# Altium schematic symbol library Connector.SchLib: 31 symbols
Pins are listed as number, name and electrical type; pins without a type are passive.

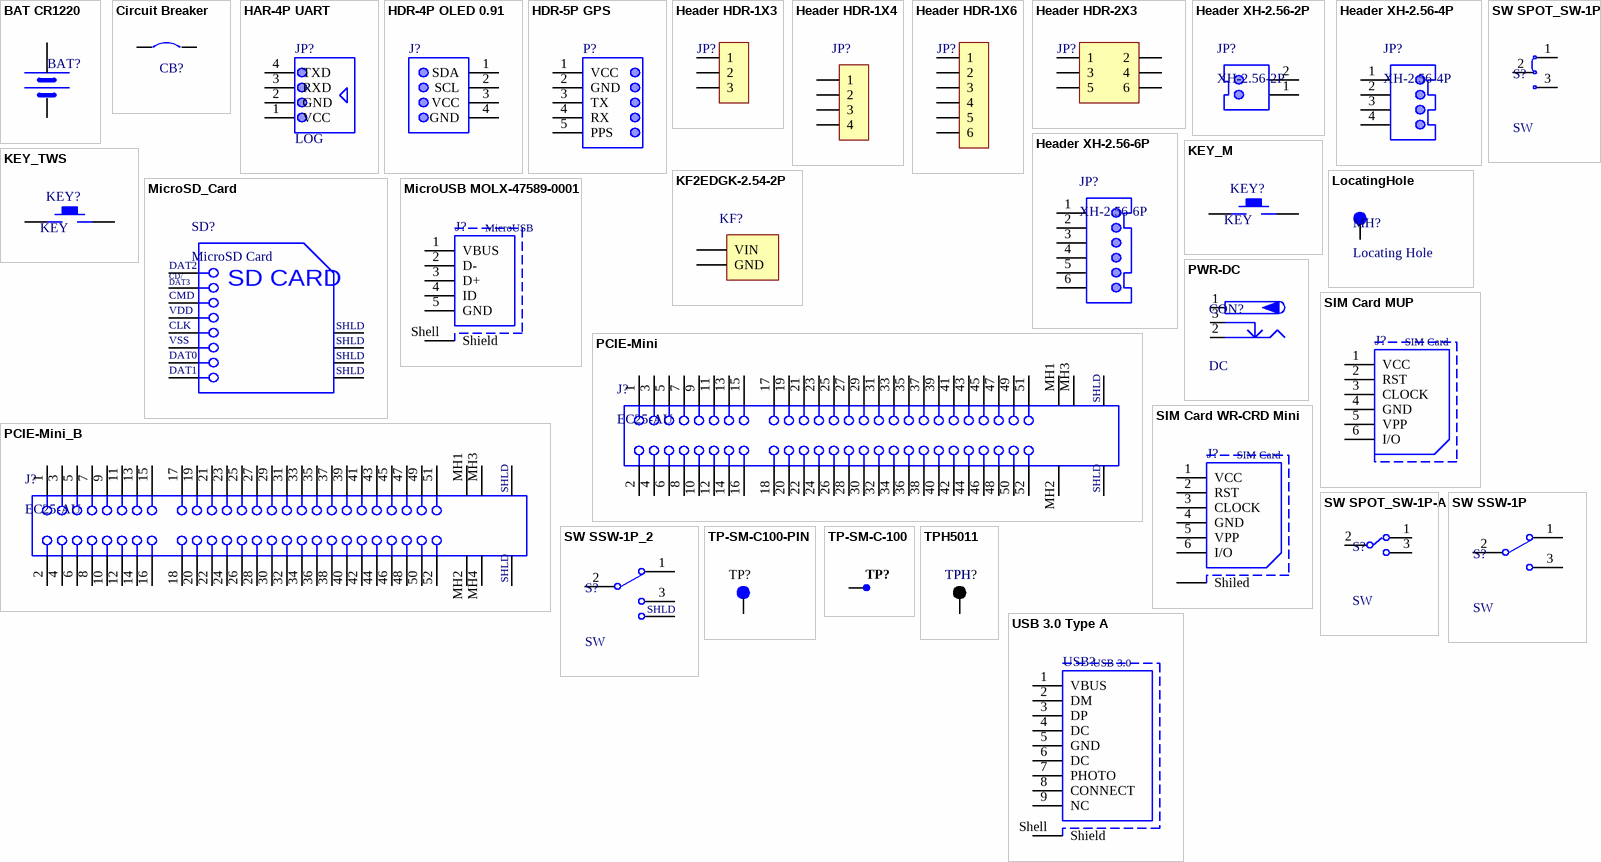
[diagram p0: symbols BAT CR1220 to USB 3.0 Type A]

## BAT CR1220
designator BAT?, comment BAT  (value not drawn)
footprint CR1220_A (纽扣电池座)
footprint CR1220_B (纽扣电池座)
pins: 1 VCC, 2 GND

## Circuit Breaker
designator CB?, comment CB  (value not drawn)  (no BOM)
Circuit Breaker; Published: 24-Mar-1999; LatestRevisionDate: 17-Jul-2002; LatestRevisionNote: Re-released for DXP Platform.; PackageReference: SPST-2; Publisher: Altium Limited
footprint CW
pins: 1, 2

## HAR-4P UART
designator JP?, comment LOG
Header, 4-Pin; LatestRevisionDate: 17-Jul-2002; LatestRevisionNote: Re-released for DXP Platform.; Publisher: Altium Limited
footprint HDR-4P Bluetooth-v (Connector; Header; 4 Position)
footprint HDR-4P UART (Connector; Header; 4 Position)
pins: 1 VCC, 2 GND, 3 RXD, 4 TXD

## HDR-4P OLED 0.91
designator J?
Header, 4-Pin; LatestRevisionDate: 17-Jul-2002; LatestRevisionNote: Re-released for DXP Platform.; Publisher: Altium Limited
footprint HDR-4P OLED (Connector; Header; 4Position)
pins: 1 SDA, 2 SCL, 3 VCC, 4 GND

## HDR-5P GPS
designator P?
Header, 5-Pin; LatestRevisionDate: 17-Jul-2002; LatestRevisionNote: Re-released for DXP Platform.; Publisher: Altium Limited
signal-integrity model Connector
footprint HDR-5P GPS (Connector; Header; 5 Position)
pins: 1 VCC, 2 GND, 3 TX, 4 RX, 5 PPS

## Header HDR-1X3
designator JP?, comment HDR-1X3  (value not drawn)
3P接插件; 版权归属: 源创客; BOM名称: 3P接插件; 学习资源: www.ooocke.com
footprint HDR-1X3 (排针，3脚)
footprint HDR-1X3_M (排母，3脚)
footprint XH2.54-3P (接插件，3P)
footprint VH3.96-3P (接插件，25V/5A)
footprint XH2.54-3P_H (接插件，3P)
footprint HDR-1X3_H (弯脚排针，3脚)
footprint KF2510-3P (接插件/2A)
footprint HDR-1X3_Y (圆孔排母，3脚)
footprint VH3.96-3P_H (接插件，25V/5A)
footprint KF301-3P (可拼接端子/6A)
footprint KF2EDGK5.0-3P (直列插拔式端子)
footprint PH2.0 D-L-3P (接插件/1A)
footprint PH2.0 D-W-3P (接插件/1A)
footprint KF2EDGK5.0-3P_H (弯角插拔式端子)
footprint KF7620-3P (22.8*12*12mm(长宽高))
footprint KF350-3P (可拼接端子/10A)
footprint KF128-3.81-3P (螺钉式接线端子，脚距3.81mm)
footprint KF128-5.08-3P (螺钉式接线端子，脚距5.08mm)
footprint PH2.0 S-W-3P (长：10mm，宽：7.6mm，高：5.5mm)
footprint KF2EDGK5.08-3P (直列插拔式端子)
footprint KF2EDGK5.08-3P_H (弯角插拔式端子)
footprint HDR2.54 S-W-3P (3P卧式贴片排针2.54)
footprint HDR2.54 S-W-3P_M (3P卧式贴片排母2.54)
pins: 1, 2, 3

## Header HDR-1X4
designator JP?, comment HDR-1X4  (value not drawn)
4P接插件; 版权归属: 源创客; BOM名称: 4P接插件; 学习资源: www.ooocke.com
footprint HDR-1X4 (排针，4脚)
footprint HDR-1X4_M (排母，4脚)
footprint XH2.54-4P (接插件，4P)
footprint KF2510-4P (接插件/2A)
footprint VH3.96-4P_H (接插件，25V/5A)
footprint PH2.0 D-L-4P (接插件/1A)
footprint HDR-1X4_H (弯脚排针，4脚)
footprint HDR-1X4_Y (圆孔排母，4脚)
footprint XH2.54-4P_H (接插件，4P)
footprint PH2.0 D-W-4P (接插件/1A)
footprint KF301-4P (可拼接端子/6A)
footprint KF2EDGK5.0-4P (直列插拔式端子)
footprint KF2EDGK5.0-4P_H (弯角插拔式端子)
footprint KF7620-4P (30.5*12*12mm(长宽高))
footprint KF350-4P (可拼接端子/10A)
footprint KF128-3.81-4P (螺钉式接线端子，脚距3.81mm)
footprint KF128-5.08-4P (螺钉式接线端子，脚距5.08mm)
footprint VH3.96-4P (接插件，25V/5A)
footprint PH2.0 S-W-4P (长：12mm，宽：7.6mm，高：5.5mm)
footprint KF2EDGK5.08-4P (直列插拔式端子)
footprint KF2EDGK5.08-4P_H (弯角插拔式端子)
footprint HDR2.54 S-W-4P (4P卧式贴片排针2.54)
footprint HDR2.54 S-W-4P_M (4P卧式贴片排母2.54)
pins: 1, 2, 3, 4

## Header HDR-1X6
designator JP?, comment HDR-1X6  (value not drawn)
6P接插件; 版权归属: 源创客; BOM名称: 6P接插件; 学习资源: www.ooocke.com
footprint HDR-1X6 (排针，6脚)
footprint HDR-1X6_M (排母，6脚)
footprint XH2.54-6P (接插件，6P)
footprint VH3.96-6P_H (接插件，25V/5A)
footprint KF2510-6P (接插件/2A)
footprint XH2.54-6P_H (接插件，6P)
footprint HDR-1X6_Y (圆孔排母，6脚)
footprint HDR-1X6_H (弯脚排针，6脚)
footprint VH3.96-6P (接插件，25V/5A)
footprint KF301-6P (可拼接端子/6A)
footprint KF2EDGK5.0-6P (直列插拔式端子)
footprint PH2.0 D-L-6P (接插件/1A)
footprint PH2.0 D-W-6P (接插件/1A)
footprint KF2EDGK5.0-6P_H (弯角插拔式端子)
footprint KF7620-6P (45.7*12*12mm(长宽高))
footprint KF350-6P (可拼接端子/10A)
footprint KF128-5.08-6P (螺钉式接线端子，脚距5.08mm)
footprint KF128-3.81-6P (螺钉式接线端子，脚距3.81mm)
footprint PH2.0 S-W-6P (长：16mm，宽：7.6mm，高：5.5mm)
footprint KF2EDGK5.08-6P (直列插拔式端子)
footprint KF2EDGK5.08-6P_H (弯角插拔式端子)
footprint HDR2.54 S-W-6P (6P卧式贴片排针2.54)
footprint HDR2.54 S-W-6P_M (6P卧式贴片排母2.54)
pins: 1, 2, 3, 4, 5, 6

## Header HDR-2X3
designator JP?, comment HDR-2X3  (value not drawn)
3*2P接插件; 版权归属: 源创客; BOM名称: 3*2P接插件; 学习资源: www.ooocke.com
footprint HDR-3X2 (双排弯脚排针，3x2脚)
footprint IDC2.54-6P (6P简易牛角座)
footprint HDR-3X2_H (双排弯脚排针，3x2脚)
footprint PHB2.0-2x3 (长：8mm，宽：7.3mm，高：7.8mm)
footprint PHD2.0-2x3P (6脚，长：8mm，宽：5mm，高：6.5mm)
footprint HDR2.54 2x3-M-SMD (脚距：2.54mm，贴片双排母)
pins: 1, 2, 3, 4, 5, 6

## Header XH-2.56-2P
designator JP?, comment XH-2.56-2P
Male Header, Pitch 2.5 mm, 1 x 2 Position, Height 7 mm, Tail Length 3.4 mm, -25 to 85 degC, RoHS, Bulk; Manufacturer: JST; No of Positions: 2; Pitch: 2.5mm; Style/Orientation: StraightHeader/Plug; Datasheet Version: 05/2016; Package Description: Male Header, Pitch 2.5 mm, 1 x 2 Position, Height 7 mm, Tail Length 3.4 mm; Package Reference: B2B-XH-A; Mounting Technology: ThroughHole; Type: ShroudedHeader; Datasheet URL: http://www.jst-mfg.com/product/pdf/eng/eXH.pdf; Manufacturer URL: http://www.jst.com/home2.html; Termination: Crimp
footprint XH2.54-2P (接插件，2P)
pins: 1, 2

## Header XH-2.56-4P
designator JP?, comment XH-2.56-4P
Male Header, Pitch 2.5 mm, 1 x 4 Position, Height 7 mm, Tail Length 8.4 mm, -25 to 85 degC, RoHS, Bulk; Manufacturer: JST; No of Positions: 2; Pitch: 2.5mm; Style/Orientation: StraightHeader/Plug; Datasheet Version: 05/2016; Package Description: Male Header, Pitch 2.5 mm, 1 x 2 Position, Height 7 mm, Tail Length 3.4 mm; Package Reference: B2B-XH-A; Mounting Technology: ThroughHole; Type: ShroudedHeader; Datasheet URL: http://www.jst-mfg.com/product/pdf/eng/eXH.pdf; Manufacturer URL: http://www.jst.com/home2.html; Termination: Crimp
footprint XH2.54-4P (接插件，4P)
pins: 1, 2, 3, 4

## Header XH-2.56-6P
designator JP?, comment XH-2.56-6P
Male Header, Pitch 2.5 mm, 1 x 4 Position, Height 7 mm, Tail Length 8.4 mm, -25 to 85 degC, RoHS, Bulk; Manufacturer: JST; No of Positions: 2; Pitch: 2.5mm; Style/Orientation: StraightHeader/Plug; Datasheet Version: 05/2016; Package Description: Male Header, Pitch 2.5 mm, 1 x 2 Position, Height 7 mm, Tail Length 3.4 mm; Package Reference: B2B-XH-A; Mounting Technology: ThroughHole; Type: ShroudedHeader; Datasheet URL: http://www.jst-mfg.com/product/pdf/eng/eXH.pdf; Manufacturer URL: http://www.jst.com/home2.html; Termination: Crimp
footprint XH2.54-6P (接插件，6P)
pins: 1, 2, 3, 4, 5, 6

## KEY_M
designator KEY?, comment KEY
footprint TSW DIP-6*6*8 (6*6*8mm)
footprint TSW SMD-6*6*5 (6*6*5mm)
pins: 1, 2

## KEY_TWS
designator KEY?, comment KEY
footprint TSW SMD-4*4*1.5 (轻触开关，长宽高：4*4*1.5mm)
pins: 1, 2

## KF2EDGK-2.54-2P
designator KF?, comment DC  (value not drawn)
2P, DC,KF2EDGK-2.54
footprint KF2EDGK-2.54-LI-2P (长：6.93mm，宽：8.1mm，高：10.1mm)
pins: 1 VIN, 2 GND

## LocatingHole
designator MH?, comment Locating Hole
footprint lh
pins: 1

## MicroSD_Card
designator SD?, comment MicroSD Card
MicroSD Card Connector, Hinge Type, -40 to 85 degC, 8-Pin SMD, RoHS, Tape and Reel, CMP-2000-05245-1; Manufacturer: Molex; Current Rating: 500mA; Number of Contacts: 8; Pitch: 1.09mm; Insertion - Extraction Style: Hinged; Voltage Rating: 100VDC; Product: CardConnectors; Contact Material: CopperAlloy; Series: 47219; Packaging: Reel; Brand: Molex; Product Category: MemoryCardConnectors; Housing Material: Thermoplastic; Mounting Style: SMD/SMT; Termination Style: SMD; Datasheet Version: Rev. F, 06/2009; Card Type: microSD; Manufacturer URL: http://www.molex.com/; RoHS: Details; Datasheet URL: http://www.molex.com/pdm_docs/sd/472192001_sd.pdf; Factory Pack Quantity: 2400
footprint MOLX-47219-2001-8_V (CONN, 8-Leads, Body 14.5x13.6mm, Pitch 1.1mm)
pins: 1 DAT2, 2 CD/DAT3, 3 CMD, 4 VDD, 5 CLK, 6 VSS, 7 DAT0, 8 DAT1, 9 SHLD, 10 SHLD, 11 SHLD, 12 SHLD
text: CD/; DAT3; SD CARD

## MicroUSB MOLX-47589-0001
designator J?, comment MicroUSB
Right Angle Female Type AB Micro USB Connector, 30 V, 1.8 A, -30 to 85 degC, RoHS, Tape and Reel; Part Number: 629105150921; Manufacturer: Wurth Elektronik; Rated Current: 1.8A; Contact Resistance: 30mOhm; Gender: Receptacle; Working Voltage: 30VAC; Connector Type: MicroUSB2.0TypeAB; Publisher: WurthElektronik; Operating Temperature: -40to85degC; Packaging: TapeandReel; Datasheet URL: https://katalog.we-online.de/em/datasheet/629105150921.pdf; Mounting Technology: SMT; Orientation: Horizontal; Package Reference: 629105150921; Manufacturer URL: http://www.we-online.de
footprint MOLX-47589-0001 (Micro USB 2.0 Type AB ，USB SMD, 5-Leads, Body 7.5x5.6mm, Pitch 0.65mm)
pins: 1 VBUS, 2 D-, 3 D+, 4 ID, 5 GND, Shell Shield

## PCIE-Mini
designator J?, comment EC25-AU
Female Header, Pitch 0.8 mm, 2 x 26 Position, Height 9.9 mm, -40 to 85 degC, RoHS, Tape and Reel, CMP-2000-05614-1, 48338-0099; Brand: Molex; Number of Positions / Contacts: 52; Mounting Angle: Right; Housing Material: Thermoplastic; Mounting Style: SMD/SMT; Series: 48338; Contact Plating: Gold; Product Category: PCIExpress/PCIConnectors; Factory Pack Quantity: 300; Manufacturer: Molex; Package Description: 52-Pin Surface Mount Device, Body 30 x 9.3 mm, Pitch 0.8 mm; Datasheet Version: Rev. F, 06/2009; Mounting Technology: SurfaceMount; Packaging: Reel; Product Type: MiniPCI; Package Reference: 48338-0099; Manufacturer URL: http://www.molex.com/; Contact Material: CopperAlloy; Datasheet URL: http://www.molex.com/pdm_docs/sd/483380099_sd.pdf; Number of Positions: 52; RoHS: Details
footprint PCIEmin-i
pins: 1, 2, 3, 4, 5, 6, 7, 8, 9, 10, 11, 12, 13, 14, 15, 16, 17, 18, 19, 20, 21, 22, 23, 24, 25, 26, 27, 28, 29, 30, 31, 32, 33, 34, 35, 36, 37, 38, 39, 40, 41, 42, 43, 44, 45, 46, 47, 48, 49, 50, 51, 52, 53 SHLD, 54 SHLD, MH1, MH2, MH3

## PCIE-Mini_B
designator J?, comment EC25-AU
Backup,Female Header, Pitch 0.8 mm, 2 x 26 Position, Height 9.9 mm, -40 to 85 degC, RoHS, Tape and Reel, CMP-2000-05614-1, 48338-0099; Brand: Molex; Number of Positions / Contacts: 52; Mounting Angle: Right; Housing Material: Thermoplastic; Mounting Style: SMD/SMT; Series: 48338; Contact Plating: Gold; Product Category: PCIExpress/PCIConnectors; Factory Pack Quantity: 300; Manufacturer: Molex; Package Description: 52-Pin Surface Mount Device, Body 30 x 9.3 mm, Pitch 0.8 mm; Datasheet Version: Rev. F, 06/2009; Mounting Technology: SurfaceMount; Packaging: Reel; Product Type: MiniPCI; Package Reference: 48338-0099; Manufacturer URL: http://www.molex.com/; Contact Material: CopperAlloy; Datasheet URL: http://www.molex.com/pdm_docs/sd/483380099_sd.pdf; Number of Positions: 52; RoHS: Details
footprint PCIEmin-i
pins: 1, 2, 3, 4, 5, 6, 7, 8, 9, 10, 11, 12, 13, 14, 15, 16, 17, 18, 19, 20, 21, 22, 23, 24, 25, 26, 27, 28, 29, 30, 31, 32, 33, 34, 35, 36, 37, 38, 39, 40, 41, 42, 43, 44, 45, 46, 47, 48, 49, 50, 51, 52, 53 SHLD, 54 SHLD, MH1, MH2, MH3, MH4

## PWR-DC
designator CON?, comment DC
低压电源接口; BOM名称: DC电源接口; 版权归属: 源创客; 学习资源: www.ooocke.com
footprint DC-005 (5.5*2.1mm，DC30V,2.5A)
footprint DC-002 (3.5*1.1mm,)
footprint DC-003 (3.5*1.1mm)
footprint DC-003A (3.5*1.1mm)
footprint DC-050 (5.5*2.1)
pins: 1 (power), 2 (power), 3 (power)

## SIM Card MUP
designator J?, comment SIM Card
MUP, 6P; Manufacturer: Wurth Elektronik; Part Number: 693010020611; Working Voltage: 50VAC; Rated Current: 0.5A; Withstanding Voltage: 500VAC; Packaging: TapeandReel; Manufacturer URL: http://www.we-online.de; Operating Temperature: -25to85degC; Publisher: WurthElektronik; Package Reference: 693010020611; Datasheet URL: https://katalog.we-online.de/em/datasheet/693010020611.pdf; Mounting Technology: SMT; Taobao: https://item.taobao.com/item.htm?spm=a230r.1.14.37.7dfabe7eHV2uMn&id=550214241835&ns=1&abbucket=6#detail
footprint SIM Card (MUP , 6P)
pins: 1 VCC, 2 RST, 3 CLOCK, 4 GND, 5 VPP, 6 I/O

## SIM Card WR-CRD Mini
designator J?, comment SIM Card
WR-CRD Mini SIM Card Connector Header Shielded, CMP-1502-00155-1,  693010020611; Manufacturer: Wurth Elektronik; Working Voltage: 50VAC; Rated Current: 0.5A; Withstanding Voltage: 500VAC; Packaging: TapeandReel; Manufacturer URL: http://www.we-online.de; Operating Temperature: -25to85degC; Publisher: WurthElektronik; Package Reference: 693010020611; Datasheet URL: https://katalog.we-online.de/em/datasheet/693010020611.pdf; Part Number: 693010020611; Mounting Technology: SMT
footprint SIM GCT-SMT-16_V (SMT, 16-Leads, Body 17.5x17.5mm, Pitch 1.27mm)
pins: 1 VCC, 2 RST, 3 CLOCK, 4 GND, 5 VPP, 6 I/O, Shiled

## SW SPOT_SW-1P
designator S?, comment SW
1路开关; BOM名称: 波动开关; 版权归属: 源创客; 学习资源: www.ooocke.com
footprint SWITCH_SPOT
pins: 1, 2, 3

## SW SPOT_SW-1P-A
designator S?, comment SW
1路开关; BOM名称: 波动开关; 版权归属: 源创客; 学习资源: www.ooocke.com
footprint SWITCH_SPOT
pins: 1, 2, 3

## SW SSW-1P
designator S?, comment SW
1路波动开关; BOM名称: 波动开关; 版权归属: 源创客; 学习资源: www.ooocke.com
footprint SS-12F23
footprint SS-12D10
footprint MSK-12C01-07 (6.7*2.8*1.5mm(长宽高）)
pins: 1, 2, 3

## SW SSW-1P_2
designator S?, comment SW
1路波动开关; BOM名称: 波动开关; 版权归属: 源创客; 学习资源: www.ooocke.com
footprint SS-12F23 (1P2T)  Straight foot (脚距3mm)
pins: 0 shield, 1, 2, 3
text: SHLD

## TP-SM-C100-PIN
designator TP?, comment TP  (value not drawn)
Test Point, Surface Mount, Circular, Pad Diameter 1.27 mm; ComponentLink2URL: http://www.keyelco.com/product-pdf.cfm?p=1320; ComponentLink1URL: http://www.keyelco.com/; ComponentLink1Description: Manufacturer URL; ComponentLink2Description: Datasheet
footprint TP-SM-C-100-PIN (Test Point, Surface Mounting, Circular, Pad Diameter 1mm)
pins: 1

## TP-SM-C-100
designator TP?, comment TP  (value not drawn)  (no BOM)
Test Point, Surface Mount, Circular, Pad Diameter 1 mm, CMP-0484-00002-2,; PartNumber: TP-SM-C-100; Manufacturer: No Vendor
footprint TP-SM-C-100 (Test Point, Surface Mounting, Circular, Pad Diameter 1mm)
pins: 1

## TPH5011
designator TPH?, comment TPH
Test Point, Black, Through Hole, RoHS, Bulk, CMP-1672-00003-4, 5011; Manufacturer: Keystone; ComponentLink2URL: http://www.keyelco.com/product-pdf.cfm?p=1320; Colour: Black; Pins: 1; REACH SVHC: No SVHC; ComponentLink1URL: http://www.keyelco.com/; PackageReference: 5011; Contact Plating: Silver; Package Quantity: 100; Packaging: Bulk; RoHSCompliant: true; Height: 8.12 mm; PackageDescription: 1-Pin Through Hole Device, Dia 3.17 mm; Mount: Through Hole; Mounting Technology: Through Hole; DatasheetVersion: Rev. F, 12/2013; ComponentLink1Description: Manufacturer URL; Contact Material: Bronze; ComponentLink2Description: Datasheet
footprint KSTN-5011_V (Test Point, Dia 3.17mm)
footprint TP-TH-C-152-H90 (Test Point, Through Hole, Hole Size 0.9mm, PCB Mount with Silkscreen Box)
pins: 1

## USB 3.0 Type A
designator USB?, comment USB 3.0
USB 3.0 Type A Receptacle WR-COM, Horizontal, THT; Part Number: 692121030100; Manufacturer: Wurth Elektronik; Contact Resistance: 50mOhm; Working Voltage: 30VAC; Rated Current: 0.25A; Orientation: Horizontal; Publisher: WurthElektronik; Gender: Receptacle; Mounting Technology: THT; Datasheet URL: https://katalog.we-online.de/em/datasheet/692121030100.pdf; Package Reference: 692121030100; Operating Temperature: -20to85degC; Packaging: TapeandReel; Manufacturer URL: http://www.we-online.de; Connector Type: USB3.0TypeA
footprint USB3.0-i (USB 3.0 Type A Horizontal)
pins: 1 VBUS, 2 DM, 3 DP, 4 DC, 5 GND, 6 DC, 7 PHOTO, 8 CONNECT, 9 NC, Shell Shield